# Altium footprint library HT3.96.PcbLib: 56 footprints (part 1 of 4)
Each footprint in its own frame and in the unit in brackets; x right, y up, seen from the top. Pads: shape width x height; smd on the part's side, far side on the other; paste and mask are expansions set on the pad; w line width, h text height; cw(c..) or ccw(c..) is an arc to the next point about the centre after c.
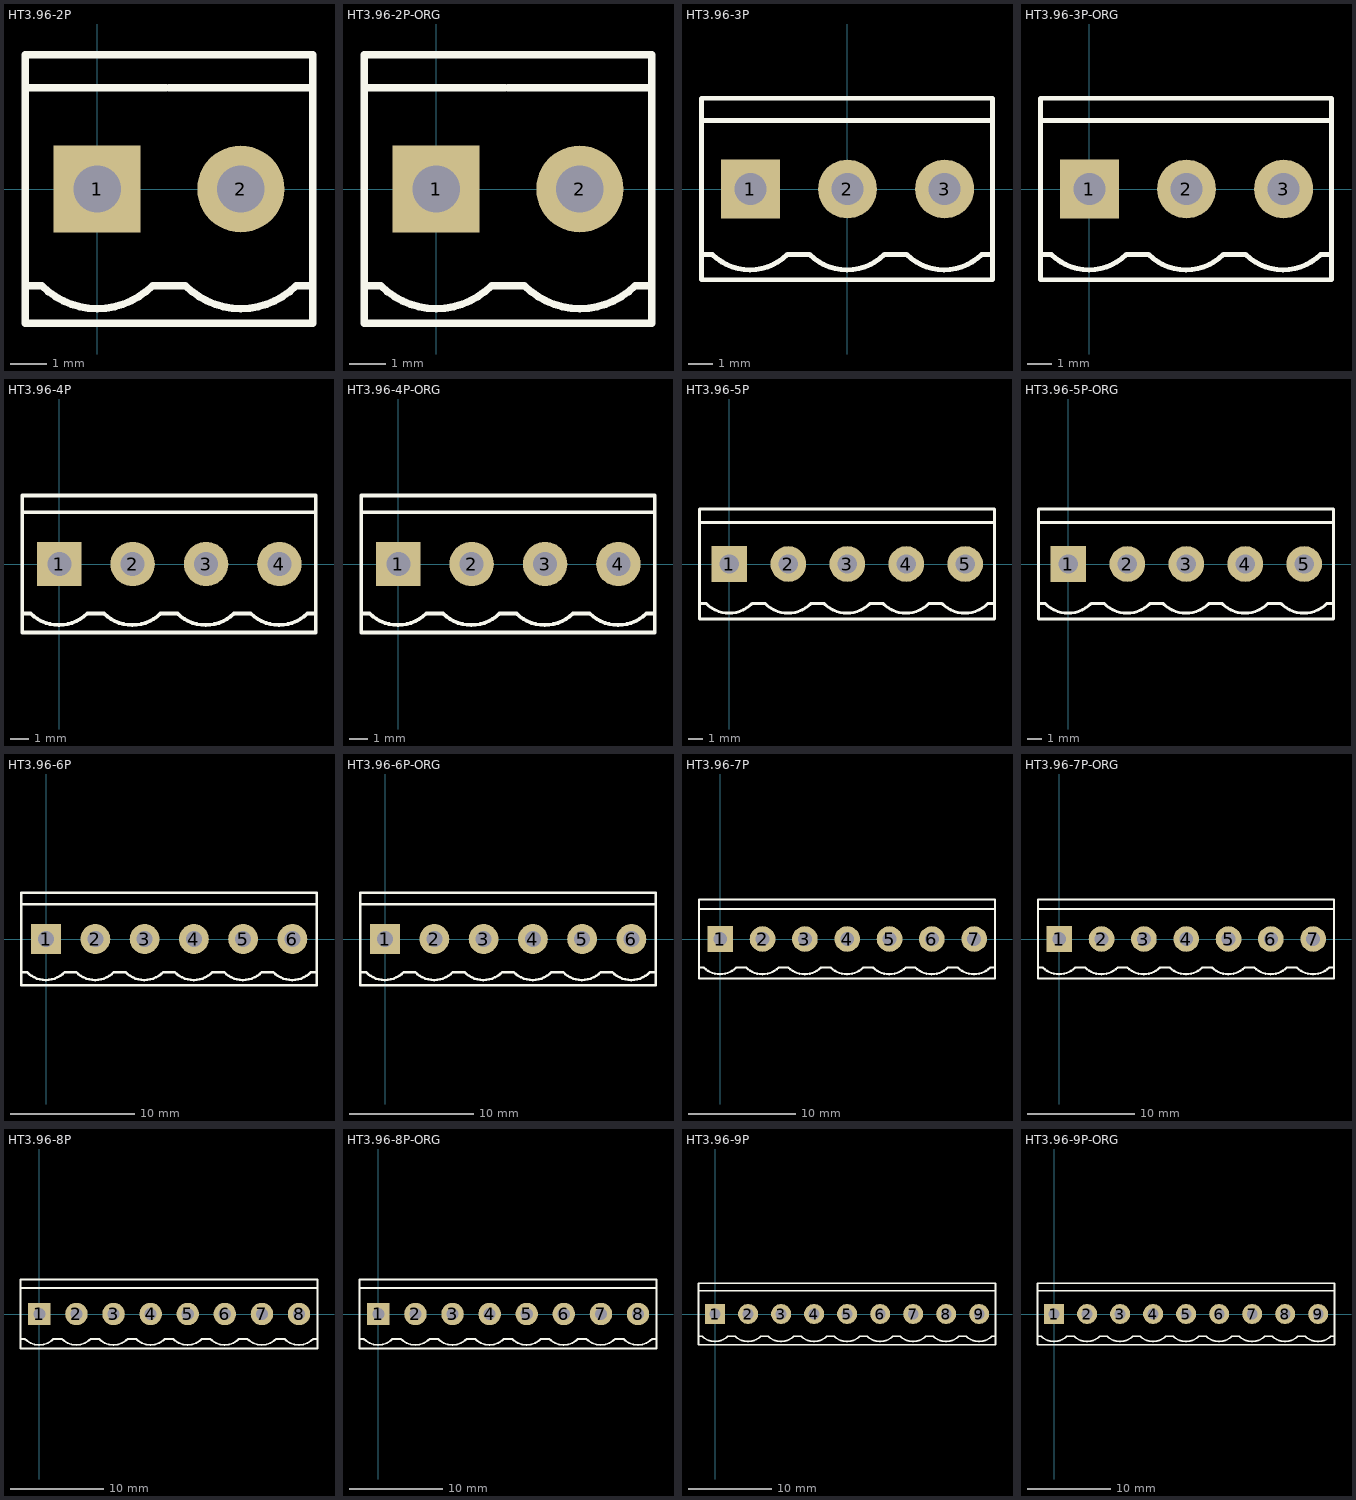
[diagram p0: the footprints below, top view; thin cyan lines are the x and y axes]

## HT3.96-2P [mm]
pads (2):
  rect 2.4x2.4 hole 1.3: 1(0,0)
  round 2.4 hole 1.3: 2(3.96,0)
Top Overlay:
  lines w0.203: -1.98,-2.667 -1.524,-2.667 ccw(c0,-1.143) 1.524,-2.667 1.98,-2.667 2.436,-2.667 ccw(c3.96,-1.143) 5.484,-2.667 5.94,-2.667 ; -1.98,2.794 1.905,2.794 ; 1.98,2.794 5.865,2.794 ; -1.98,-3.7 1.98,-3.7 5.94,-3.7 5.94,3.7 1.98,3.7 -1.98,3.7 -1.98,-3.7
3D body "HT3.96-LI.STEP": height 10.05, standoff -2.95, extent 1.876,-3.7 5.876,3.7
3D body "HT3.96-LI.STEP": height 10.05, standoff -2.95, extent -2.084,-3.7 1.916,3.7

## HT3.96-2P-ORG [mm]
pads (2):
  rect 2.4x2.4 hole 1.3: 1(0,0)
  round 2.4 hole 1.3: 2(3.96,0)
Top Overlay:
  lines w0.203: -1.98,-2.667 -1.524,-2.667 ccw(c0,-1.143) 1.524,-2.667 1.98,-2.667 2.436,-2.667 ccw(c3.96,-1.143) 5.484,-2.667 5.94,-2.667 ; -1.98,2.794 1.905,2.794 ; 1.98,2.794 5.865,2.794 ; -1.98,-3.7 1.98,-3.7 5.94,-3.7 5.94,3.7 1.98,3.7 -1.98,3.7 -1.98,-3.7
3D body "HT3.96-LI-ORG.STEP": height 10.05, standoff -2.95, extent 1.94,-3.7 5.94,3.7
3D body "HT3.96-LI-ORG.STEP": height 10.05, standoff -2.95, extent -2.02,-3.7 1.98,3.7

## HT3.96-3P [mm]
pads (3):
  rect 2.4x2.4 hole 1.3: 1(-3.96,0)
  round 2.4 hole 1.3: 2(0,0) 3(3.96,0)
Top Overlay:
  lines w0.203: -5.96,-2.667 -5.504,-2.667 ccw(c-3.98,-1.143) -2.456,-2.667 -2,-2.667 -1.544,-2.667 ccw(c-0.02,-1.143) 1.504,-2.667 1.96,-2.667 2.416,-2.667 ccw(c3.94,-1.143) 5.464,-2.667 5.92,-2.667 ; -5.96,2.794 -2.075,2.794 ; -2,2.794 1.885,2.794 ; 1.96,2.794 5.845,2.794 ; -5.96,-3.7 -2,-3.7 1.96,-3.7 5.92,-3.7 5.92,3.7 1.96,3.7 -2,3.7 -5.96,3.7 -5.96,-3.7
3D body "HT3.96-LI.STEP": height 10.05, standoff -2.95, extent -2.084,-3.7 1.916,3.7
3D body "HT3.96-LI.STEP": height 10.05, standoff -2.95, extent -6.044,-3.7 -2.044,3.7
3D body "HT3.96-LI.STEP": height 10.05, standoff -2.95, extent 1.876,-3.7 5.876,3.7

## HT3.96-3P-ORG [mm]
pads (3):
  rect 2.4x2.4 hole 1.3: 1(0,0)
  round 2.4 hole 1.3: 2(3.96,0) 3(7.92,0)
Top Overlay:
  lines w0.203: -2,-2.667 -1.544,-2.667 ccw(c-0.02,-1.143) 1.504,-2.667 1.96,-2.667 2.416,-2.667 ccw(c3.94,-1.143) 5.464,-2.667 5.92,-2.667 6.376,-2.667 ccw(c7.9,-1.143) 9.424,-2.667 9.88,-2.667 ; -2,2.794 1.885,2.794 ; 1.96,2.794 5.845,2.794 ; 5.92,2.794 9.805,2.794 ; -2,-3.7 1.96,-3.7 5.92,-3.7 9.88,-3.7 9.88,3.7 5.92,3.7 1.96,3.7 -2,3.7 -2,-3.7
3D body "HT3.96-LI-ORG.STEP": height 10.05, standoff -2.95, extent 5.9,-3.7 9.9,3.7
3D body "HT3.96-LI-ORG.STEP": height 10.05, standoff -2.95, extent -2.02,-3.7 1.98,3.7
3D body "HT3.96-LI-ORG.STEP": height 10.05, standoff -2.95, extent 1.94,-3.7 5.94,3.7

## HT3.96-4P [mm]
pads (4):
  rect 2.4x2.4 hole 1.3: 1(0,0)
  round 2.4 hole 1.3: 2(3.96,0) 3(7.92,0) 4(11.88,0)
Top Overlay:
  lines w0.203: -2,-2.667 -1.544,-2.667 ccw(c-0.02,-1.143) 1.504,-2.667 1.96,-2.667 2.416,-2.667 ccw(c3.94,-1.143) 5.464,-2.667 5.92,-2.667 6.376,-2.667 ccw(c7.9,-1.143) 9.424,-2.667 9.88,-2.667 10.336,-2.667 ccw(c11.86,-1.143) 13.384,-2.667 13.84,-2.667 ; -2,2.794 1.885,2.794 ; 1.96,2.794 5.845,2.794 ; 5.92,2.794 9.805,2.794 ; 9.88,2.794 13.765,2.794 ; -2,-3.7 1.96,-3.7 5.92,-3.7 9.88,-3.7 13.84,-3.7 13.84,3.7 9.88,3.7 5.92,3.7 1.96,3.7 -2,3.7 -2,-3.7
3D body "HT3.96-LI.STEP": height 10.05, standoff -2.95, extent 9.796,-3.7 13.796,3.7
3D body "HT3.96-LI.STEP": height 10.05, standoff -2.95, extent 1.876,-3.7 5.876,3.7
3D body "HT3.96-LI.STEP": height 10.05, standoff -2.95, extent -2.084,-3.7 1.916,3.7
3D body "HT3.96-LI.STEP": height 10.05, standoff -2.95, extent 5.836,-3.7 9.836,3.7

## HT3.96-4P-ORG [mm]
pads (4):
  rect 2.4x2.4 hole 1.3: 1(0,0)
  round 2.4 hole 1.3: 2(3.96,0) 3(7.92,0) 4(11.88,0)
Top Overlay:
  lines w0.203: -2,-2.667 -1.544,-2.667 ccw(c-0.02,-1.143) 1.504,-2.667 1.96,-2.667 2.416,-2.667 ccw(c3.94,-1.143) 5.464,-2.667 5.92,-2.667 6.376,-2.667 ccw(c7.9,-1.143) 9.424,-2.667 9.88,-2.667 10.336,-2.667 ccw(c11.86,-1.143) 13.384,-2.667 13.84,-2.667 ; -2,2.794 1.885,2.794 ; 1.96,2.794 5.845,2.794 ; 5.92,2.794 9.805,2.794 ; 9.88,2.794 13.765,2.794 ; -2,-3.7 -2,3.7 1.96,3.7 5.92,3.7 9.88,3.7 13.84,3.7 13.84,-3.7 9.88,-3.7 5.92,-3.7 1.96,-3.7 -2,-3.7
3D body "HT3.96-LI-ORG.STEP": height 10.05, standoff -2.95, extent 5.9,-3.7 9.9,3.7
3D body "HT3.96-LI-ORG.STEP": height 10.05, standoff -2.95, extent -2.02,-3.7 1.98,3.7
3D body "HT3.96-LI-ORG.STEP": height 10.05, standoff -2.95, extent 1.94,-3.7 5.94,3.7
3D body "HT3.96-LI-ORG.STEP": height 10.05, standoff -2.95, extent 9.86,-3.7 13.86,3.7

## HT3.96-5P [mm]
pads (5):
  rect 2.4x2.4 hole 1.3: 1(0,0)
  round 2.4 hole 1.3: 2(3.96,0) 3(7.92,0) 4(11.88,0) 5(15.84,0)
Top Overlay:
  lines w0.203: -2,-2.667 -1.544,-2.667 ccw(c-0.02,-1.143) 1.504,-2.667 1.96,-2.667 2.416,-2.667 ccw(c3.94,-1.143) 5.464,-2.667 5.92,-2.667 6.376,-2.667 ccw(c7.9,-1.143) 9.424,-2.667 9.88,-2.667 10.336,-2.667 ccw(c11.86,-1.143) 13.384,-2.667 13.84,-2.667 14.296,-2.667 ccw(c15.82,-1.143) 17.344,-2.667 17.8,-2.667 ; -2,2.794 1.885,2.794 ; 1.96,2.794 5.845,2.794 ; 5.92,2.794 9.805,2.794 ; 9.88,2.794 13.765,2.794 ; 13.84,2.794 17.725,2.794 ; -2,-3.7 -2,3.7 1.96,3.7 5.92,3.7 9.88,3.7 13.84,3.7 17.8,3.7 17.8,-3.7 13.84,-3.7 9.88,-3.7 5.92,-3.7 1.96,-3.7 -2,-3.7
3D body "HT3.96-LI.STEP": height 10.05, standoff -2.95, extent 13.756,-3.7 17.756,3.7
3D body "HT3.96-LI.STEP": height 10.05, standoff -2.95, extent 9.796,-3.7 13.796,3.7
3D body "HT3.96-LI.STEP": height 10.05, standoff -2.95, extent 1.876,-3.7 5.876,3.7
3D body "HT3.96-LI.STEP": height 10.05, standoff -2.95, extent -2.084,-3.7 1.916,3.7
3D body "HT3.96-LI.STEP": height 10.05, standoff -2.95, extent 5.836,-3.7 9.836,3.7

## HT3.96-5P-ORG [mm]
pads (5):
  rect 2.4x2.4 hole 1.3: 1(0,0)
  round 2.4 hole 1.3: 2(3.96,0) 3(7.92,0) 4(11.88,0) 5(15.84,0)
Top Overlay:
  lines w0.203: -2,-2.667 -1.544,-2.667 ccw(c-0.02,-1.143) 1.504,-2.667 1.96,-2.667 2.416,-2.667 ccw(c3.94,-1.143) 5.464,-2.667 5.92,-2.667 6.376,-2.667 ccw(c7.9,-1.143) 9.424,-2.667 9.88,-2.667 10.336,-2.667 ccw(c11.86,-1.143) 13.384,-2.667 13.84,-2.667 14.296,-2.667 ccw(c15.82,-1.143) 17.344,-2.667 17.8,-2.667 ; -2,2.794 1.885,2.794 ; 1.96,2.794 5.845,2.794 ; 5.92,2.794 9.805,2.794 ; 9.88,2.794 13.765,2.794 ; 13.84,2.794 17.725,2.794 ; -2,-3.7 -2,3.7 1.96,3.7 5.92,3.7 9.88,3.7 13.84,3.7 17.8,3.7 17.8,-3.7 13.84,-3.7 9.88,-3.7 5.92,-3.7 1.96,-3.7 -2,-3.7
3D body "HT3.96-LI-ORG.STEP": height 10.05, standoff -2.95, extent 5.9,-3.7 9.9,3.7
3D body "HT3.96-LI-ORG.STEP": height 10.05, standoff -2.95, extent -2.02,-3.7 1.98,3.7
3D body "HT3.96-LI-ORG.STEP": height 10.05, standoff -2.95, extent 1.94,-3.7 5.94,3.7
3D body "HT3.96-LI-ORG.STEP": height 10.05, standoff -2.95, extent 9.86,-3.7 13.86,3.7
3D body "HT3.96-LI-ORG.STEP": height 10.05, standoff -2.95, extent 13.82,-3.7 17.82,3.7

## HT3.96-6P [mm] "HT3.96立插端子"
pads (6):
  rect 2.4x2.4 hole 1.3: 1(0,0)
  round 2.4 hole 1.3: 2(3.96,0) 3(7.92,0) 4(11.88,0) 5(15.84,0) 6(19.8,0)
Top Overlay:
  lines w0.203: -2,-2.667 -1.544,-2.667 ccw(c-0.02,-1.143) 1.504,-2.667 1.96,-2.667 2.416,-2.667 ccw(c3.94,-1.143) 5.464,-2.667 5.92,-2.667 6.376,-2.667 ccw(c7.9,-1.143) 9.424,-2.667 9.88,-2.667 10.336,-2.667 ccw(c11.86,-1.143) 13.384,-2.667 13.84,-2.667 14.296,-2.667 ccw(c15.82,-1.143) 17.344,-2.667 17.8,-2.667 18.256,-2.667 ccw(c19.78,-1.143) 21.304,-2.667 21.76,-2.667 ; -2,2.794 1.885,2.794 ; 1.96,2.794 5.845,2.794 ; 5.92,2.794 9.805,2.794 ; 9.88,2.794 13.765,2.794 ; 13.84,2.794 17.725,2.794 ; 17.8,2.794 21.685,2.794 ; -2,-3.7 -2,3.7 1.96,3.7 5.92,3.7 9.88,3.7 13.84,3.7 17.8,3.7 21.76,3.7 21.76,-3.7 17.8,-3.7 13.84,-3.7 9.88,-3.7 5.92,-3.7 1.96,-3.7 -2,-3.7
3D body "HT3.96-LI.STEP": height 10.05, standoff -2.95, extent 13.756,-3.7 17.756,3.7
3D body "HT3.96-LI.STEP": height 10.05, standoff -2.95, extent 9.796,-3.7 13.796,3.7
3D body "HT3.96-LI.STEP": height 10.05, standoff -2.95, extent 17.716,-3.7 21.716,3.7
3D body "HT3.96-LI.STEP": height 10.05, standoff -2.95, extent 1.876,-3.7 5.876,3.7
3D body "HT3.96-LI.STEP": height 10.05, standoff -2.95, extent -2.084,-3.7 1.916,3.7
3D body "HT3.96-LI.STEP": height 10.05, standoff -2.95, extent 5.836,-3.7 9.836,3.7

## HT3.96-6P-ORG [mm]
pads (6):
  rect 2.4x2.4 hole 1.3: 1(0,0)
  round 2.4 hole 1.3: 2(3.96,0) 3(7.92,0) 4(11.88,0) 5(15.84,0) 6(19.8,0)
Top Overlay:
  lines w0.203: -2,-2.667 -1.544,-2.667 ccw(c-0.02,-1.143) 1.504,-2.667 1.96,-2.667 2.416,-2.667 ccw(c3.94,-1.143) 5.464,-2.667 5.92,-2.667 6.376,-2.667 ccw(c7.9,-1.143) 9.424,-2.667 9.88,-2.667 10.336,-2.667 ccw(c11.86,-1.143) 13.384,-2.667 13.84,-2.667 14.296,-2.667 ccw(c15.82,-1.143) 17.344,-2.667 17.8,-2.667 18.256,-2.667 ccw(c19.78,-1.143) 21.304,-2.667 21.76,-2.667 ; -2,2.794 1.885,2.794 ; 1.96,2.794 5.845,2.794 ; 5.92,2.794 9.805,2.794 ; 9.88,2.794 13.765,2.794 ; 13.84,2.794 17.725,2.794 ; 17.8,2.794 21.685,2.794 ; -2,-3.7 -2,3.7 1.96,3.7 5.92,3.7 9.88,3.7 13.84,3.7 17.8,3.7 21.76,3.7 21.76,-3.7 17.8,-3.7 13.84,-3.7 9.88,-3.7 5.92,-3.7 1.96,-3.7 -2,-3.7
3D body "HT3.96-LI-ORG.STEP": height 10.05, standoff -2.95, extent 5.9,-3.7 9.9,3.7
3D body "HT3.96-LI-ORG.STEP": height 10.05, standoff -2.95, extent -2.02,-3.7 1.98,3.7
3D body "HT3.96-LI-ORG.STEP": height 10.05, standoff -2.95, extent 1.94,-3.7 5.94,3.7
3D body "HT3.96-LI-ORG.STEP": height 10.05, standoff -2.95, extent 17.78,-3.7 21.78,3.7
3D body "HT3.96-LI-ORG.STEP": height 10.05, standoff -2.95, extent 9.86,-3.7 13.86,3.7
3D body "HT3.96-LI-ORG.STEP": height 10.05, standoff -2.95, extent 13.82,-3.7 17.82,3.7

## HT3.96-7P [mm]
pads (7):
  rect 2.4x2.4 hole 1.3: 1(0,0)
  round 2.4 hole 1.3: 2(3.96,0) 3(7.92,0) 4(11.88,0) 5(15.84,0) 6(19.8,0) 7(23.76,0)
Top Overlay:
  lines w0.203: -2,-2.667 -1.544,-2.667 ccw(c-0.02,-1.143) 1.504,-2.667 1.96,-2.667 2.416,-2.667 ccw(c3.94,-1.143) 5.464,-2.667 5.92,-2.667 6.376,-2.667 ccw(c7.9,-1.143) 9.424,-2.667 9.88,-2.667 10.336,-2.667 ccw(c11.86,-1.143) 13.384,-2.667 13.84,-2.667 14.296,-2.667 ccw(c15.82,-1.143) 17.344,-2.667 17.8,-2.667 18.256,-2.667 ccw(c19.78,-1.143) 21.304,-2.667 21.76,-2.667 22.216,-2.667 ccw(c23.74,-1.143) 25.264,-2.667 25.72,-2.667 ; -2,2.794 1.885,2.794 ; 1.96,2.794 5.845,2.794 ; 5.92,2.794 9.805,2.794 ; 9.88,2.794 13.765,2.794 ; 13.84,2.794 17.725,2.794 ; 17.8,2.794 21.685,2.794 ; 21.76,2.794 25.645,2.794 ; -2,-3.7 -2,3.7 1.96,3.7 5.92,3.7 9.88,3.7 13.84,3.7 17.8,3.7 21.76,3.7 25.72,3.7 25.72,-3.7 21.76,-3.7 17.8,-3.7 13.84,-3.7 9.88,-3.7 5.92,-3.7 1.96,-3.7 -2,-3.7
3D body "HT3.96-LI.STEP": height 10.05, standoff -2.95, extent 21.676,-3.7 25.676,3.7
3D body "HT3.96-LI.STEP": height 10.05, standoff -2.95, extent 13.756,-3.7 17.756,3.7
3D body "HT3.96-LI.STEP": height 10.05, standoff -2.95, extent 9.796,-3.7 13.796,3.7
3D body "HT3.96-LI.STEP": height 10.05, standoff -2.95, extent 17.716,-3.7 21.716,3.7
3D body "HT3.96-LI.STEP": height 10.05, standoff -2.95, extent 1.876,-3.7 5.876,3.7
3D body "HT3.96-LI.STEP": height 10.05, standoff -2.95, extent -2.084,-3.7 1.916,3.7
3D body "HT3.96-LI.STEP": height 10.05, standoff -2.95, extent 5.836,-3.7 9.836,3.7

## HT3.96-7P-ORG [mm]
pads (7):
  rect 2.4x2.4 hole 1.3: 1(0,0)
  round 2.4 hole 1.3: 2(3.96,0) 3(7.92,0) 4(11.88,0) 5(15.84,0) 6(19.8,0) 7(23.76,0)
Top Overlay:
  lines w0.203: -2,-2.667 -1.544,-2.667 ccw(c-0.02,-1.143) 1.504,-2.667 1.96,-2.667 2.416,-2.667 ccw(c3.94,-1.143) 5.464,-2.667 5.92,-2.667 6.376,-2.667 ccw(c7.9,-1.143) 9.424,-2.667 9.88,-2.667 10.336,-2.667 ccw(c11.86,-1.143) 13.384,-2.667 13.84,-2.667 14.296,-2.667 ccw(c15.82,-1.143) 17.344,-2.667 17.8,-2.667 18.256,-2.667 ccw(c19.78,-1.143) 21.304,-2.667 21.76,-2.667 22.216,-2.667 ccw(c23.74,-1.143) 25.264,-2.667 25.72,-2.667 ; -2,2.794 1.885,2.794 ; 1.96,2.794 5.845,2.794 ; 5.92,2.794 9.805,2.794 ; 9.88,2.794 13.765,2.794 ; 13.84,2.794 17.725,2.794 ; 17.8,2.794 21.685,2.794 ; 21.76,2.794 25.645,2.794 ; -2,-3.7 -2,3.7 1.96,3.7 5.92,3.7 9.88,3.7 13.84,3.7 17.8,3.7 21.76,3.7 25.72,3.7 25.72,-3.7 21.76,-3.7 17.8,-3.7 13.84,-3.7 9.88,-3.7 5.92,-3.7 1.96,-3.7 -2,-3.7
3D body "HT3.96-LI-ORG.STEP": height 10.05, standoff -2.95, extent 21.74,-3.7 25.74,3.7
3D body "HT3.96-LI-ORG.STEP": height 10.05, standoff -2.95, extent 13.82,-3.7 17.82,3.7
3D body "HT3.96-LI-ORG.STEP": height 10.05, standoff -2.95, extent 9.86,-3.7 13.86,3.7
3D body "HT3.96-LI-ORG.STEP": height 10.05, standoff -2.95, extent 17.78,-3.7 21.78,3.7
3D body "HT3.96-LI-ORG.STEP": height 10.05, standoff -2.95, extent 1.94,-3.7 5.94,3.7
3D body "HT3.96-LI-ORG.STEP": height 10.05, standoff -2.95, extent -2.02,-3.7 1.98,3.7
3D body "HT3.96-LI-ORG.STEP": height 10.05, standoff -2.95, extent 5.9,-3.7 9.9,3.7

## HT3.96-8P [mm]
pads (8):
  rect 2.4x2.4 hole 1.3: 1(0,0)
  round 2.4 hole 1.3: 2(3.96,0) 3(7.92,0) 4(11.88,0) 5(15.84,0) 6(19.8,0) 7(23.76,0) 8(27.72,0)
Top Overlay:
  lines w0.203: -2,-2.667 -1.544,-2.667 ccw(c-0.02,-1.143) 1.504,-2.667 1.96,-2.667 2.416,-2.667 ccw(c3.94,-1.143) 5.464,-2.667 5.92,-2.667 6.376,-2.667 ccw(c7.9,-1.143) 9.424,-2.667 9.88,-2.667 10.336,-2.667 ccw(c11.86,-1.143) 13.384,-2.667 13.84,-2.667 14.296,-2.667 ccw(c15.82,-1.143) 17.344,-2.667 17.8,-2.667 18.256,-2.667 ccw(c19.78,-1.143) 21.304,-2.667 21.76,-2.667 22.216,-2.667 ccw(c23.74,-1.143) 25.264,-2.667 25.72,-2.667 26.176,-2.667 ccw(c27.7,-1.143) 29.224,-2.667 29.68,-2.667 ; -2,2.794 1.885,2.794 ; 1.96,2.794 5.845,2.794 ; 5.92,2.794 9.805,2.794 ; 9.88,2.794 13.765,2.794 ; 13.84,2.794 17.725,2.794 ; 17.8,2.794 21.685,2.794 ; 21.76,2.794 25.645,2.794 ; 25.72,2.794 29.605,2.794 ; -2,-3.7 1.96,-3.7 5.92,-3.7 9.88,-3.7 13.84,-3.7 17.8,-3.7 21.76,-3.7 25.72,-3.7 29.68,-3.7 29.68,3.7 25.72,3.7 21.76,3.7 17.8,3.7 13.84,3.7 9.88,3.7 5.92,3.7 1.96,3.7 -2,3.7 -2,-3.7
3D body "HT3.96-LI.STEP": height 10.05, standoff -2.95, extent 5.836,-3.7 9.836,3.7
3D body "HT3.96-LI.STEP": height 10.05, standoff -2.95, extent -2.084,-3.7 1.916,3.7
3D body "HT3.96-LI.STEP": height 10.05, standoff -2.95, extent 1.876,-3.7 5.876,3.7
3D body "HT3.96-LI.STEP": height 10.05, standoff -2.95, extent 17.716,-3.7 21.716,3.7
3D body "HT3.96-LI.STEP": height 10.05, standoff -2.95, extent 9.796,-3.7 13.796,3.7
3D body "HT3.96-LI.STEP": height 10.05, standoff -2.95, extent 13.756,-3.7 17.756,3.7
3D body "HT3.96-LI.STEP": height 10.05, standoff -2.95, extent 21.676,-3.7 25.676,3.7
3D body "HT3.96-LI.STEP": height 10.05, standoff -2.95, extent 25.636,-3.7 29.636,3.7

## HT3.96-8P-ORG [mm]
pads (8):
  rect 2.4x2.4 hole 1.3: 1(0,0)
  round 2.4 hole 1.3: 2(3.96,0) 3(7.92,0) 4(11.88,0) 5(15.84,0) 6(19.8,0) 7(23.76,0) 8(27.72,0)
Top Overlay:
  lines w0.203: -2,-2.667 -1.544,-2.667 ccw(c-0.02,-1.143) 1.504,-2.667 1.96,-2.667 2.416,-2.667 ccw(c3.94,-1.143) 5.464,-2.667 5.92,-2.667 6.376,-2.667 ccw(c7.9,-1.143) 9.424,-2.667 9.88,-2.667 10.336,-2.667 ccw(c11.86,-1.143) 13.384,-2.667 13.84,-2.667 14.296,-2.667 ccw(c15.82,-1.143) 17.344,-2.667 17.8,-2.667 18.256,-2.667 ccw(c19.78,-1.143) 21.304,-2.667 21.76,-2.667 22.216,-2.667 ccw(c23.74,-1.143) 25.264,-2.667 25.72,-2.667 26.176,-2.667 ccw(c27.7,-1.143) 29.224,-2.667 29.68,-2.667 ; -2,2.794 1.885,2.794 ; 1.96,2.794 5.845,2.794 ; 5.92,2.794 9.805,2.794 ; 9.88,2.794 13.765,2.794 ; 13.84,2.794 17.725,2.794 ; 17.8,2.794 21.685,2.794 ; 21.76,2.794 25.645,2.794 ; 25.72,2.794 29.605,2.794 ; -2,-3.7 1.96,-3.7 5.92,-3.7 9.88,-3.7 13.84,-3.7 17.8,-3.7 21.76,-3.7 25.72,-3.7 29.68,-3.7 29.68,3.7 25.72,3.7 21.76,3.7 17.8,3.7 13.84,3.7 9.88,3.7 5.92,3.7 1.96,3.7 -2,3.7 -2,-3.7
3D body "HT3.96-LI-ORG.STEP": height 10.05, standoff -2.95, extent 5.9,-3.7 9.9,3.7
3D body "HT3.96-LI-ORG.STEP": height 10.05, standoff -2.95, extent -2.02,-3.7 1.98,3.7
3D body "HT3.96-LI-ORG.STEP": height 10.05, standoff -2.95, extent 1.94,-3.7 5.94,3.7
3D body "HT3.96-LI-ORG.STEP": height 10.05, standoff -2.95, extent 17.78,-3.7 21.78,3.7
3D body "HT3.96-LI-ORG.STEP": height 10.05, standoff -2.95, extent 9.86,-3.7 13.86,3.7
3D body "HT3.96-LI-ORG.STEP": height 10.05, standoff -2.95, extent 13.82,-3.7 17.82,3.7
3D body "HT3.96-LI-ORG.STEP": height 10.05, standoff -2.95, extent 21.74,-3.7 25.74,3.7
3D body "HT3.96-LI-ORG.STEP": height 10.05, standoff -2.95, extent 25.7,-3.7 29.7,3.7

## HT3.96-9P [mm]
pads (9):
  rect 2.4x2.4 hole 1.3: 1(0,0)
  round 2.4 hole 1.3: 2(3.96,0) 3(7.92,0) 4(11.88,0) 5(15.84,0) 6(19.8,0) 7(23.76,0) 8(27.72,0) 9(31.68,0)
Top Overlay:
  lines w0.203: -2,-2.667 -1.544,-2.667 ccw(c-0.02,-1.143) 1.504,-2.667 ; -2,2.794 1.885,2.794 ; 1.96,2.794 5.845,2.794 ; 5.92,2.794 9.805,2.794 ; 9.88,2.794 13.765,2.794 ; 13.84,2.794 17.725,2.794 ; 17.8,2.794 21.685,2.794 ; 21.76,2.794 25.645,2.794 ; 25.72,2.794 29.605,2.794 ; 29.68,2.794 33.565,2.794 ; 33.64,-2.667 33.184,-2.667 cw(c31.66,-1.143) 30.136,-2.667 ; 1.504,-2.667 1.96,-2.667 ; 1.504,-2.667 1.96,-2.667 ; 1.96,-2.667 2.416,-2.667 ; 1.96,-2.667 2.416,-2.667 ; 2.416,-2.667 ccw(c3.94,-1.143) 5.464,-2.667 ; 5.464,-2.667 5.92,-2.667 ; 5.464,-2.667 5.92,-2.667 ; 5.92,-2.667 6.376,-2.667 ; 5.92,-2.667 6.376,-2.667 ; 6.376,-2.667 ccw(c7.9,-1.143) 9.424,-2.667 ; 9.424,-2.667 9.88,-2.667 ; 9.424,-2.667 9.88,-2.667 ; 9.88,-2.667 10.336,-2.667 ; 9.88,-2.667 10.336,-2.667 ; 10.336,-2.667 ccw(c11.86,-1.143) 13.384,-2.667 ; 13.384,-2.667 13.84,-2.667 ; 13.384,-2.667 13.84,-2.667 ; 13.84,-2.667 14.296,-2.667 ; 13.84,-2.667 14.296,-2.667 ; 14.296,-2.667 ccw(c15.82,-1.143) 17.344,-2.667 ; 17.344,-2.667 17.8,-2.667 ; 17.344,-2.667 17.8,-2.667 ; 17.8,-2.667 18.256,-2.667 ; 17.8,-2.667 18.256,-2.667 ; 18.256,-2.667 ccw(c19.78,-1.143) 21.304,-2.667 ; 21.304,-2.667 21.76,-2.667 ; 21.304,-2.667 21.76,-2.667 ; 21.76,-2.667 22.216,-2.667 ; 21.76,-2.667 22.216,-2.667 ; 22.216,-2.667 ccw(c23.74,-1.143) 25.264,-2.667 ; 25.264,-2.667 25.72,-2.667 ; 25.264,-2.667 25.72,-2.667 ; 25.72,-2.667 26.176,-2.667 ; 25.72,-2.667 26.176,-2.667 ; 26.176,-2.667 ccw(c27.7,-1.143) 29.224,-2.667 ; 29.224,-2.667 29.68,-2.667 ; 29.224,-2.667 29.68,-2.667 ; 29.68,-2.667 30.136,-2.667 ; 29.68,-2.667 30.136,-2.667 ; -2,-3.7 -2,3.7 1.96,3.7 5.92,3.7 9.88,3.7 13.84,3.7 17.8,3.7 21.76,3.7 25.72,3.7 29.68,3.7 33.64,3.7 33.64,-3.7 29.68,-3.7 25.72,-3.7 21.76,-3.7 17.8,-3.7 13.84,-3.7 9.88,-3.7 5.92,-3.7 1.96,-3.7 -2,-3.7
3D body "HT3.96-LI.STEP": height 10.05, standoff -2.95, extent 25.636,-3.7 29.636,3.7
3D body "HT3.96-LI.STEP": height 10.05, standoff -2.95, extent 21.676,-3.7 25.676,3.7
3D body "HT3.96-LI.STEP": height 10.05, standoff -2.95, extent 29.596,-3.7 33.596,3.7
3D body "HT3.96-LI.STEP": height 10.05, standoff -2.95, extent 13.756,-3.7 17.756,3.7
3D body "HT3.96-LI.STEP": height 10.05, standoff -2.95, extent 9.796,-3.7 13.796,3.7
3D body "HT3.96-LI.STEP": height 10.05, standoff -2.95, extent 17.716,-3.7 21.716,3.7
3D body "HT3.96-LI.STEP": height 10.05, standoff -2.95, extent 1.876,-3.7 5.876,3.7
3D body "HT3.96-LI.STEP": height 10.05, standoff -2.95, extent -2.084,-3.7 1.916,3.7
3D body "HT3.96-LI.STEP": height 10.05, standoff -2.95, extent 5.836,-3.7 9.836,3.7

## HT3.96-9P-ORG [mm]
pads (9):
  rect 2.4x2.4 hole 1.3: 1(0,0)
  round 2.4 hole 1.3: 2(3.96,0) 3(7.92,0) 4(11.88,0) 5(15.84,0) 6(19.8,0) 7(23.76,0) 8(27.72,0) 9(31.68,0)
Top Overlay:
  lines w0.203: -2,-2.667 -1.544,-2.667 ccw(c-0.02,-1.143) 1.504,-2.667 ; -2,2.794 1.885,2.794 ; 1.96,2.794 5.845,2.794 ; 5.92,2.794 9.805,2.794 ; 9.88,2.794 13.765,2.794 ; 13.84,2.794 17.725,2.794 ; 17.8,2.794 21.685,2.794 ; 21.76,2.794 25.645,2.794 ; 25.72,2.794 29.605,2.794 ; 29.68,2.794 33.565,2.794 ; 33.64,-2.667 33.184,-2.667 cw(c31.66,-1.143) 30.136,-2.667 ; 1.504,-2.667 1.96,-2.667 ; 1.504,-2.667 1.96,-2.667 ; 1.96,-2.667 2.416,-2.667 ; 1.96,-2.667 2.416,-2.667 ; 2.416,-2.667 ccw(c3.94,-1.143) 5.464,-2.667 ; 5.464,-2.667 5.92,-2.667 ; 5.464,-2.667 5.92,-2.667 ; 5.92,-2.667 6.376,-2.667 ; 5.92,-2.667 6.376,-2.667 ; 6.376,-2.667 ccw(c7.9,-1.143) 9.424,-2.667 ; 9.424,-2.667 9.88,-2.667 ; 9.424,-2.667 9.88,-2.667 ; 9.88,-2.667 10.336,-2.667 ; 9.88,-2.667 10.336,-2.667 ; 10.336,-2.667 ccw(c11.86,-1.143) 13.384,-2.667 ; 13.384,-2.667 13.84,-2.667 ; 13.384,-2.667 13.84,-2.667 ; 13.84,-2.667 14.296,-2.667 ; 13.84,-2.667 14.296,-2.667 ; 14.296,-2.667 ccw(c15.82,-1.143) 17.344,-2.667 ; 17.344,-2.667 17.8,-2.667 ; 17.344,-2.667 17.8,-2.667 ; 17.8,-2.667 18.256,-2.667 ; 17.8,-2.667 18.256,-2.667 ; 18.256,-2.667 ccw(c19.78,-1.143) 21.304,-2.667 ; 21.304,-2.667 21.76,-2.667 ; 21.304,-2.667 21.76,-2.667 ; 21.76,-2.667 22.216,-2.667 ; 21.76,-2.667 22.216,-2.667 ; 22.216,-2.667 ccw(c23.74,-1.143) 25.264,-2.667 ; 25.264,-2.667 25.72,-2.667 ; 25.264,-2.667 25.72,-2.667 ; 25.72,-2.667 26.176,-2.667 ; 25.72,-2.667 26.176,-2.667 ; 26.176,-2.667 ccw(c27.7,-1.143) 29.224,-2.667 ; 29.224,-2.667 29.68,-2.667 ; 29.224,-2.667 29.68,-2.667 ; 29.68,-2.667 30.136,-2.667 ; 29.68,-2.667 30.136,-2.667 ; -2,-3.7 -2,3.7 1.96,3.7 5.92,3.7 9.88,3.7 13.84,3.7 17.8,3.7 21.76,3.7 25.72,3.7 29.68,3.7 33.64,3.7 33.64,-3.7 29.68,-3.7 25.72,-3.7 21.76,-3.7 17.8,-3.7 13.84,-3.7 9.88,-3.7 5.92,-3.7 1.96,-3.7 -2,-3.7
3D body "HT3.96-LI-ORG.STEP": height 10.05, standoff -2.95, extent 5.9,-3.7 9.9,3.7
3D body "HT3.96-LI-ORG.STEP": height 10.05, standoff -2.95, extent -2.02,-3.7 1.98,3.7
3D body "HT3.96-LI-ORG.STEP": height 10.05, standoff -2.95, extent 1.94,-3.7 5.94,3.7
3D body "HT3.96-LI-ORG.STEP": height 10.05, standoff -2.95, extent 17.78,-3.7 21.78,3.7
3D body "HT3.96-LI-ORG.STEP": height 10.05, standoff -2.95, extent 9.86,-3.7 13.86,3.7
3D body "HT3.96-LI-ORG.STEP": height 10.05, standoff -2.95, extent 13.82,-3.7 17.82,3.7
3D body "HT3.96-LI-ORG.STEP": height 10.05, standoff -2.95, extent 29.66,-3.7 33.66,3.7
3D body "HT3.96-LI-ORG.STEP": height 10.05, standoff -2.95, extent 21.74,-3.7 25.74,3.7
3D body "HT3.96-LI-ORG.STEP": height 10.05, standoff -2.95, extent 25.7,-3.7 29.7,3.7